# Altium footprint library PcbLib1.PcbLib: 24 footprints (part 2 of 2)
Each footprint in its own frame and in the unit in brackets; x right, y up, seen from the top. Pads: shape width x height; smd on the part's side, far side on the other; paste and mask are expansions set on the pad; w line width, h text height; cw(c..) or ccw(c..) is an arc to the next point about the centre after c.
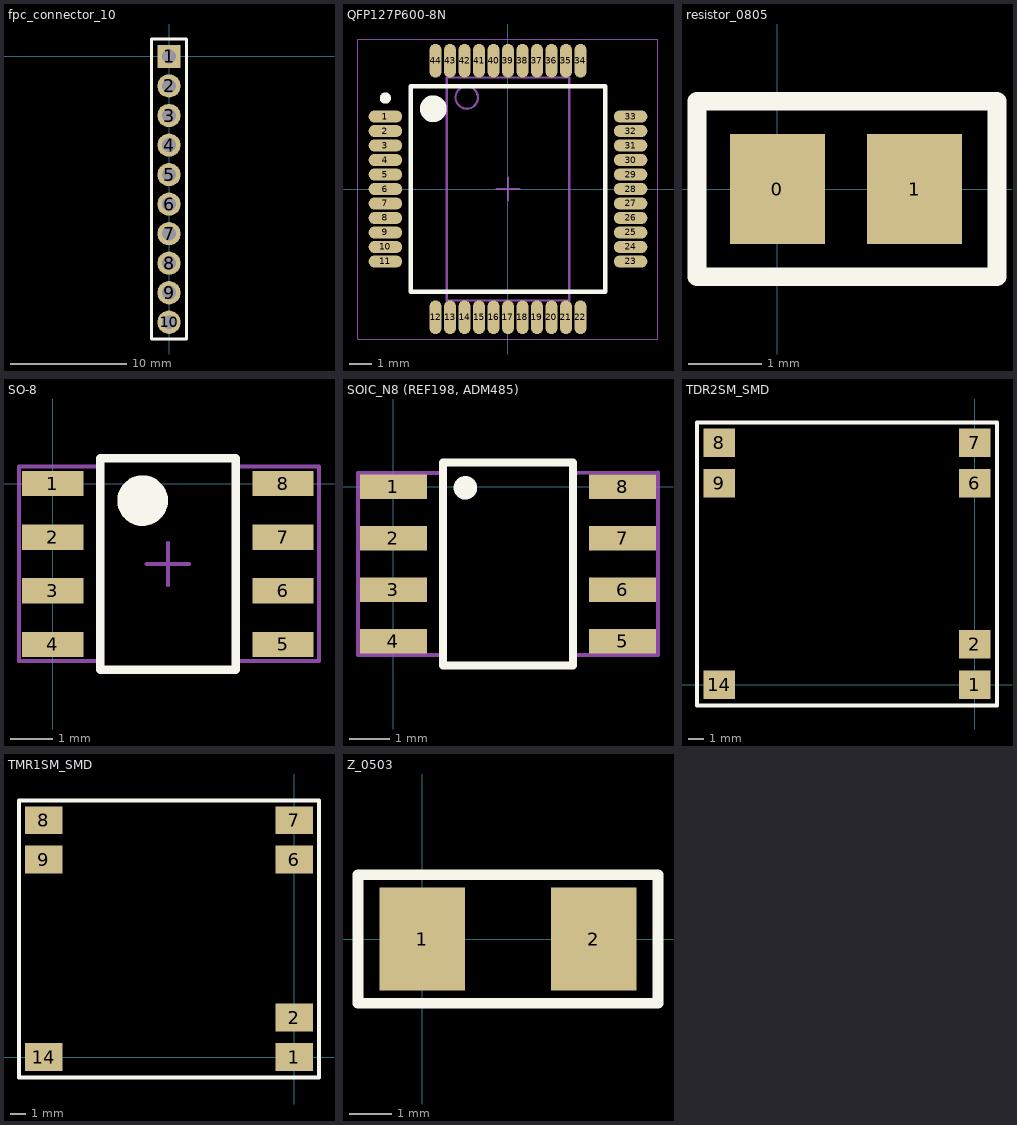
[diagram p1: the footprints below, top view; thin cyan lines are the x and y axes]

## fpc_connector_10 [mm] "10 pin"
pads (10):
  rect 2x2 hole 1.2: 1(0,0)
  round 2 hole 1.2: 2(0,-2.54) 3(0,-5.08) 4(0,-7.62) 5(0,-10.16) 6(0,-12.7) 7(0,-15.24) 8(0,-17.78) 9(0,-20.32) 10(0,-22.86)
Top Overlay:
  lines w0.254: -1.5,-24.3 -1.5,-23.9 -1.5,0.9 -1.5,1.5 1.5,1.5 1.5,-24.3 -1.5,-24.3

## QFP127P600-8N [mm]
height 1.2
pads (44):
  oval 1.5x0.55 smd: 1(-5.5,3.25) 2(-5.5,2.6) 3(-5.5,1.95) 4(-5.5,1.3) 5(-5.5,0.65) 6(-5.5,0) 7(-5.5,-0.65) 8(-5.5,-1.3) 9(-5.5,-1.95) 10(-5.5,-2.6) 11(-5.5,-3.25) 23(5.5,-3.25) 24(5.5,-2.6) 25(5.5,-1.95) 26(5.5,-1.3) 27(5.5,-0.65) 28(5.5,0) 29(5.5,0.65) 30(5.5,1.3) 31(5.5,1.95) 32(5.5,2.6) 33(5.5,3.25)
  oval 0.55x1.5 smd: 12(-3.25,-5.75) 13(-2.6,-5.75) 14(-1.95,-5.75) 15(-1.3,-5.75) 16(-0.65,-5.75) 17(0,-5.75) 18(0.65,-5.75) 19(1.3,-5.75) 20(1.95,-5.75) 21(2.6,-5.75) 22(3.25,-5.75) 34(3.25,5.75) 35(2.6,5.75) 36(1.95,5.75) 37(1.3,5.75) 38(0.65,5.75) 39(0,5.75) 40(-0.65,5.75) 41(-1.3,5.75) 42(-1.95,5.75) 43(-2.6,5.75) 44(-3.25,5.75)
Top Overlay:
  circle w0.25: c-5.5,4.075 r0.125
  circle w0.6: c-3.35,3.6 r0.3
  lines w0.2: -4.35,-4.6 -4.35,4.6 4.35,4.6 4.35,-4.6 -4.35,-4.6
Mechanical 13:
  circle w0.1: c-1.85,4.1 r0.5
  lines w0.1: -2.75,-5 -2.75,5 2.75,5 2.75,-5 -2.75,-5
Mechanical 15:
  lines w0.05: -6.725,-6.725 -6.725,6.725 6.725,6.725 6.725,-6.725 -6.725,-6.725
  lines w0.1: -0.5,0 0.5,0 ; 0,-0.5 0,0.5
3D body: height 1.2, standoff 0.15, extent -2.75,-5 2.75,5

## resistor_0805 [mm] "ЧИП-резистор типоразмера 0805"
height 0.65
pads (2):
  rect 1.3x1.5 smd: 0(0,0) 1(1.875,0)
Top Overlay:
  lines w0.254: -1.1,-1.2 -1.1,1.2 3,1.2 3,-1.2 2,-1.2 -1.1,-1.2

## SO-8 [mm] "SOP, 8-Leads, Body 4,90x3,90mm, Pitch 1,27mm, IPC Medium Density"
height 1.75
pads (8):
  rect 1.45x0.6 smd: 1(0,0) 2(0,-1.27) 3(0,-2.54) 4(0,-3.81) 5(5.45,-3.81) 6(5.45,-2.54) 7(5.45,-1.27) 8(5.45,0)
Top Overlay:
  circle w0.6: c2.125,-0.405 r0.3
  lines w0.2: 1.125,-4.405 4.325,-4.405 4.325,0.595 1.125,0.595 1.125,-4.405
Mechanical 1:
  lines w0.1: 1,-4.2 -0.8,-4.2 -0.8,0.4 0.926,0.4 1.1,0.4 ; 1.394,0.595 1.725,0.595 3.725,0.595 3.975,0.595 ; 4.4,-4.2 6.3,-4.2 6.3,0.4 4.4,0.4
Mechanical 15:
  lines w0.1: 2.225,-1.905 3.225,-1.905 ; 2.725,-2.405 2.725,-1.405

## SOIC_N8 (REF198, ADM485) [mm] "SOIC, 8-Leads, Body 4,90x3,90mm, Pitch 1,27mm, IPC Medium Density"
height 1.75
pads (8):
  rect 1.65x0.6 smd: 1(0,0) 2(0,-1.27) 3(0,-2.54) 4(0,-3.81) 5(5.65,-3.81) 6(5.65,-2.54) 7(5.65,-1.27) 8(5.65,0)
Top Overlay:
  circle w0.3: c1.775,-0.025 r0.14
  lines w0.2: 1.225,-4.405 4.425,-4.405 4.425,0.595 1.225,0.595 1.225,-4.405
Mechanical 1:
  lines w0.1: 1.1,0.345 -0.875,0.345 -0.875,-4.155 1.125,-4.155 ; 4.525,-4.155 6.525,-4.155 6.525,0.35 4.525,0.345

## TDR2SM_SMD [mm]
pads (7):
  rect 2x1.8 smd: 1(0,0) 2(0,2.54) 6(0,12.7) 7(0,15.24) 8(-16.1,15.24) 9(-16.1,12.7) 14(-16.1,0)
Top Overlay:
  lines w0.254: -17.5,-1.3 -17.2,-1.3 1.4,-1.3 1.4,16.5 -17.5,16.5 -17.5,-1.3

## TMR1SM_SMD [mm]
pads (7):
  rect 2.4x1.8 smd: 1(0,0) 2(0,2.54) 6(0,12.7) 7(0,15.24) 8(-16.1,15.24) 9(-16.1,12.7) 14(-16.1,0)
Top Overlay:
  lines w0.254: -17.7,-1.3 -17.7,16.5 1.6,16.5 1.6,-1.3 -17.2,-1.3 -17.7,-1.3

## Z_0503 [mm]
pads (2):
  rect 2x2.4 smd: 1(0,0) 2(4,0)
Top Overlay:
  lines w0.254: -1.5,-1.5 -1.5,1.5 5.5,1.5 5.5,-1.5 -1,-1.5 -1.5,-1.5